# Altium schematic symbol library Misc.SchLib: 3 symbols
Pins are listed as number, name and electrical type; pins without a type are passive.

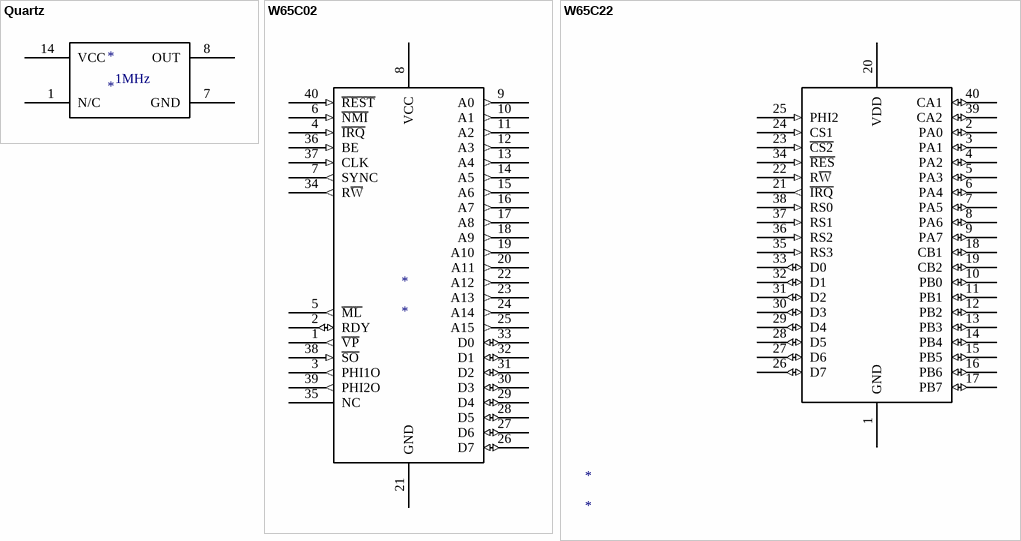
[diagram p0: symbols Quartz to W65C22]

## Quartz
designator *
pins: 1 N/C, 7 GND, 8 OUT, 14 VCC
text: 1MHz

## W65C02
designator *
footprint DIP40
pins: 1 ~{VP} (out), 2 RDY (io), 3 PHI1O (out), 4 ~{IRQ} (in), 5 ~{ML} (out), 6 ~{NMI} (in), 7 SYNC (out), 8 VCC (power), 9 A0 (out), 10 A1 (out), 11 A2 (out), 12 A3 (out), 13 A4 (out), 14 A5 (out), 15 A6 (out), 16 A7 (out), 17 A8 (out), 18 A9 (out), 19 A10 (out), 20 A11 (out), 21 GND (power), 22 A12 (out), 23 A13 (out), 24 A14 (out), 25 A15 (out), 26 D7 (io), 27 D6 (io), 28 D5 (io), 29 D4 (io), 30 D3 (io), 31 D2 (io), 32 D1 (io), 33 D0 (io), 34 R~{W} (out), 35 NC, 36 BE (in), 37 CLK (in), 38 ~{SO} (in), 39 PHI2O (out), 40 ~{REST} (in)

## W65C22
designator *
pins: 1 GND (power), 2 PA0 (io), 3 PA1 (io), 4 PA2 (io), 5 PA3 (io), 6 PA4 (io), 7 PA5 (io), 8 PA6 (io), 9 PA7 (io), 10 PB0 (io), 11 PB1 (io), 12 PB2 (io), 13 PB3 (io), 14 PB4 (io), 15 PB5 (io), 16 PB6 (io), 17 PB7 (io), 18 CB1 (io), 19 CB2 (io), 20 VDD (power), 21 ~{IRQ} (out), 22 R~{W} (in), 23 ~{CS2} (in), 24 CS1 (in), 25 PHI2 (in), 26 D7 (io), 27 D6 (io), 28 D5 (io), 29 D4 (io), 30 D3 (io), 31 D2 (io), 32 D1 (io), 33 D0 (io), 34 ~{RES} (in), 35 RS3 (in), 36 RS2 (in), 37 RS1 (in), 38 RS0 (in), 39 CA2 (io), 40 CA1 (io)